# Altium footprint library ACS_Board_Footprints.PcbLib: 9 footprints
Each footprint in its own frame and in the unit in brackets; x right, y up, seen from the top. Pads: shape width x height; smd on the part's side, far side on the other; paste and mask are expansions set on the pad; w line width, h text height; cw(c..) or ccw(c..) is an arc to the next point about the centre after c.
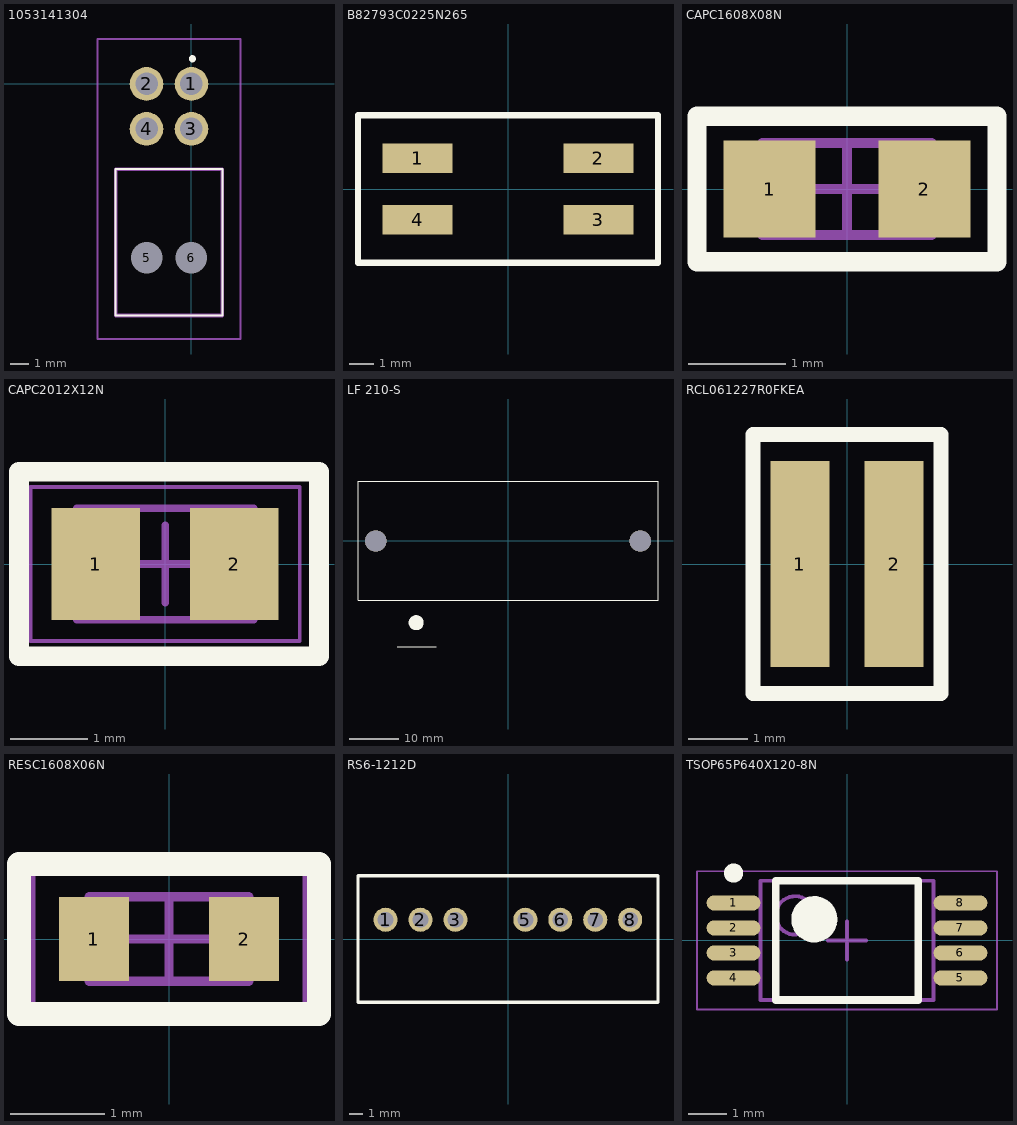
[diagram p0: the footprints below, top view; thin cyan lines are the x and y axes]

## 1053141304 [mm]
pads (6):
  round 1.875 hole 1.25: 1(0,0) 2(-2.5,0) 3(0,-2.5) 4(-2.5,-2.5)
  round 0.875 hole 1.75: 5(-2.5,-9.68) 6(0,-9.68)
Top Overlay:
  lines w0.1: -4.22,-12.88 1.72,-12.88 1.72,-4.74 0.235,-4.74 -2.735,-4.74 -4.22,-4.74 -4.22,-12.88
  lines w0.2: -0.05,1.4 cw(c0.05,1.4) 0.15,1.4 cw(c0.05,1.4) -0.05,1.4
Mechanical 13:
  lines w0.2: -4.22,-12.88 1.72,-12.88 1.72,-4.74 -4.22,-4.74 -4.22,-12.88
Mechanical 15:
  lines w0.1: -5.22,-14.19 2.72,-14.19 2.72,2.5 -5.22,2.5 -5.22,-14.19
3D body "1053141304.stp": height 9.35, standoff -2.99, extent -4.24,-14.326 1.7,0.332

## B82793C0225N265 [mm]
pads (4):
  rect 2.85x1.2 smd: 1(-3.675,1.25) 2(3.675,1.25) 3(3.675,-1.25) 4(-3.675,-1.25)
Top Overlay:
  lines w0.254: -6.1,-3 -6.1,3 6.1,3 6.1,-3 -6.1,-3

## CAPC1608X08N [mm] "Chip Capacitor, 2-Leads, Body 1.60x0.80mm, IPC Medium Density"
height 0.8
pads (2):
  rect 0.95x1 smd: 1(-0.8,0) 2(0.8,0)
Top Overlay:
  lines w0.2: -1.55,-0.75 1.55,-0.75 1.55,0.75 -1.55,0.75 -1.55,-0.75
Mechanical 2:
  lines w0.1: -0.875,-0.475 0.875,-0.475 0.875,0.475 -0.875,0.475 -0.875,-0.475
Mechanical 15:
  lines w0.05: -1.55,-0.75 1.55,-0.75 1.55,0.75 -1.55,0.75 -1.55,-0.75
  lines w0.1: -0.475,0 0.475,0 ; 0,-0.475 0,0.475
3D body: height 0.8, standoff 0, extent 0.495,-0.475 0.875,0.475
3D body: height 0.8, standoff 0, extent -0.875,-0.475 -0.495,0.475
3D body: height 0.8, standoff 0, extent -0.495,-0.475 0.495,0.475

## CAPC2012X12N [mm] "Chip Capacitor, 2-Leads, Body 2.00x1.25mm, IPC Medium Density"
height 1.25
pads (2):
  rect 1.15x1.45 smd: 1(-0.9,0) 2(0.9,0)
Top Overlay:
  lines w0.254: -1.9,-1.2 -1.9,1.2 2,1.2 2,-1.2 -1.9,-1.2
Mechanical 13:
  lines w0.1: -1.15,-0.725 1.15,-0.725 1.15,0.725 -1.15,0.725 -1.15,-0.725
Mechanical 15:
  lines w0.05: -1.75,-1 1.75,-1 1.75,1 -1.75,1 -1.75,-1
  lines w0.1: -0.5,0 0.5,0 ; 0,-0.5 0,0.5
3D body: height 1.25, standoff 0, extent 0.65,-0.725 1.15,0.725
3D body: height 1.25, standoff 0, extent -1.15,-0.725 -0.65,0.725
3D body: height 1.25, standoff 0, extent -0.65,-0.725 0.65,0.725

## LF 210-S [mm]
via -26.9,0 diameter 4.3 hole 4.3
via 26.9,0 diameter 4.3 hole 4.3
Top Overlay:
  circle w1.524: c-18.669,-16.637 r0.762
  lines w0.254: -22.479,-21.5 -14.605,-21.5 ; 8.636,12.1 -30.5,12.1 -30.5,-12.1 30.5,-12.1 30.5,12.1 8.636,12.1 ; 8.636,12.1 8.636,12.1
3D body "LF_210-S.stp": height 51.14, standoff 0.39, extent -30.5,-21.401 30.5,12.188

## RCL061227R0FKEA [mm]
pads (2):
  rect 1x3.5 smd: 1(-0.8,0) 2(0.8,0)
Top Overlay:
  lines w0.254: -1.6,-2.2 1.6,-2.2 1.6,2.2 -1.6,2.2 -1.6,-2.2

## RESC1608X06N [mm] "Chip Resistor, 2-Leads, Body 1.60x0.80mm, IPC Medium Density"
height 0.55
pads (2):
  rect 0.75x0.9 smd: 1(-0.8,0) 2(0.8,0)
Top Overlay:
  lines w0.254: -1.6,-0.8 1.6,-0.8 1.6,0.8 -1.6,0.8 -1.6,-0.8
Top Assembly:
  lines w0.1: -0.85,-0.45 0.85,-0.45 0.85,0.45 -0.85,0.45 -0.85,-0.45
Mechanical 15:
  lines w0.05: -1.45,-0.7 1.45,-0.7 1.45,0.7 -1.45,0.7 -1.45,-0.7
  lines w0.1: -0.45,0 0.45,0 ; 0,-0.45 0,0.45
3D body: height 0.55, standoff 0, extent 0.55,-0.45 0.85,0.45
3D body: height 0.55, standoff 0, extent -0.85,-0.45 -0.55,0.45
3D body: height 0.55, standoff 0, extent -0.55,-0.45 0.55,0.45

## RS6-1212D [mm]
pads (7):
  round 1.75 hole 1.15: 1(-8.9,1.4) 2(-6.36,1.4) 3(-3.82,1.4) 5(1.26,1.4) 6(3.8,1.4) 7(6.34,1.4) 8(8.88,1.4)
Top Overlay:
  lines w0.254: -10.9,-4.6 -10.9,4.6 10.9,4.6 10.9,-4.6 -10.9,-4.6
3D body "RS6-0512S.stp": height 11.6, standoff -5, extent -10.9,-4.6 10.9,4.6

## TSOP65P640X120-8N [mm] "TSOP, 8-Leads, Body 3.00x4.40mm, Pitch 0.65mm, IPC Medium Density"
height 1.2
pads (8):
  oval 1.4x0.4 smd mask+0.065: 1(-2.95,0.975) 2(-2.95,0.325) 3(-2.95,-0.325) 4(-2.95,-0.975) 5(2.95,-0.975) 6(2.95,-0.325) 7(2.95,0.325) 8(2.95,0.975)
Top Overlay:
  circle w0.25: c-2.95,1.75 r0.125
  circle w0.6: c-0.85,0.55 r0.3
  lines w0.2: -1.85,-1.55 -1.85,1.55 1.85,1.55 1.85,-1.55 -1.85,-1.55
Mechanical 13:
  circle w0.1: c-1.35,0.65 r0.5
  lines w0.1: -2.25,-1.55 -2.25,1.55 2.25,1.55 2.25,-1.55 -2.25,-1.55
Mechanical 15:
  lines w0.05: -3.9,-1.8 -3.9,1.8 3.9,1.8 3.9,-1.8 -3.9,-1.8
  lines w0.1: -0.5,0 0.5,0 ; 0,-0.5 0,0.5
3D body: height 1.2, standoff 0.1, extent -2.25,-1.55 2.25,1.55